# EAGLE library part STD020M09X1 (library con-pinheader-standard)
male standard header 2mm
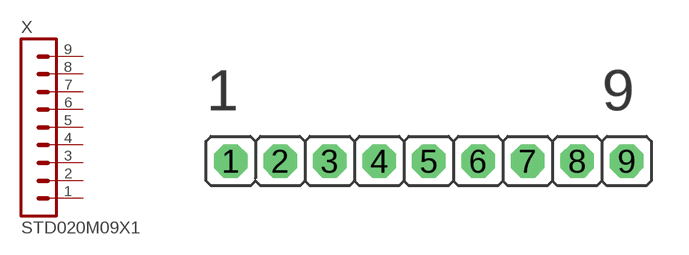
[diagram p38: symbol with the pads of STD020M09X1-2.00; footprint STD020M09X1-2.00]

Designator prefix X

## STD020M09X1-2.00MM  [STD020M09X1-2.00]
1  1  pas
2  2  pas
3  3  pas
4  4  pas
5  5  pas
6  6  pas
7  7  pas
8  8  pas
9  9  pas

## Footprint STD020M09X1-2.00 (pad centres in mm)
male standard header 2mm
drill 0.85 octagon: 1 -8,0; 2 -6,0; 3 -4,0; 4 -2,0; 5 0,0; 6 2,0; 7 4,0; 8 6,0; 9 8,0